# Altium footprint library axsem_production_v1-8.PCBLIB: 22 footprints (part 1 of 2)
Each footprint in its own frame and in the unit in brackets; x right, y up, seen from the top. Pads: shape width x height; smd on the part's side, far side on the other; paste and mask are expansions set on the pad; w line width, h text height; cw(c..) or ccw(c..) is an arc to the next point about the centre after c.
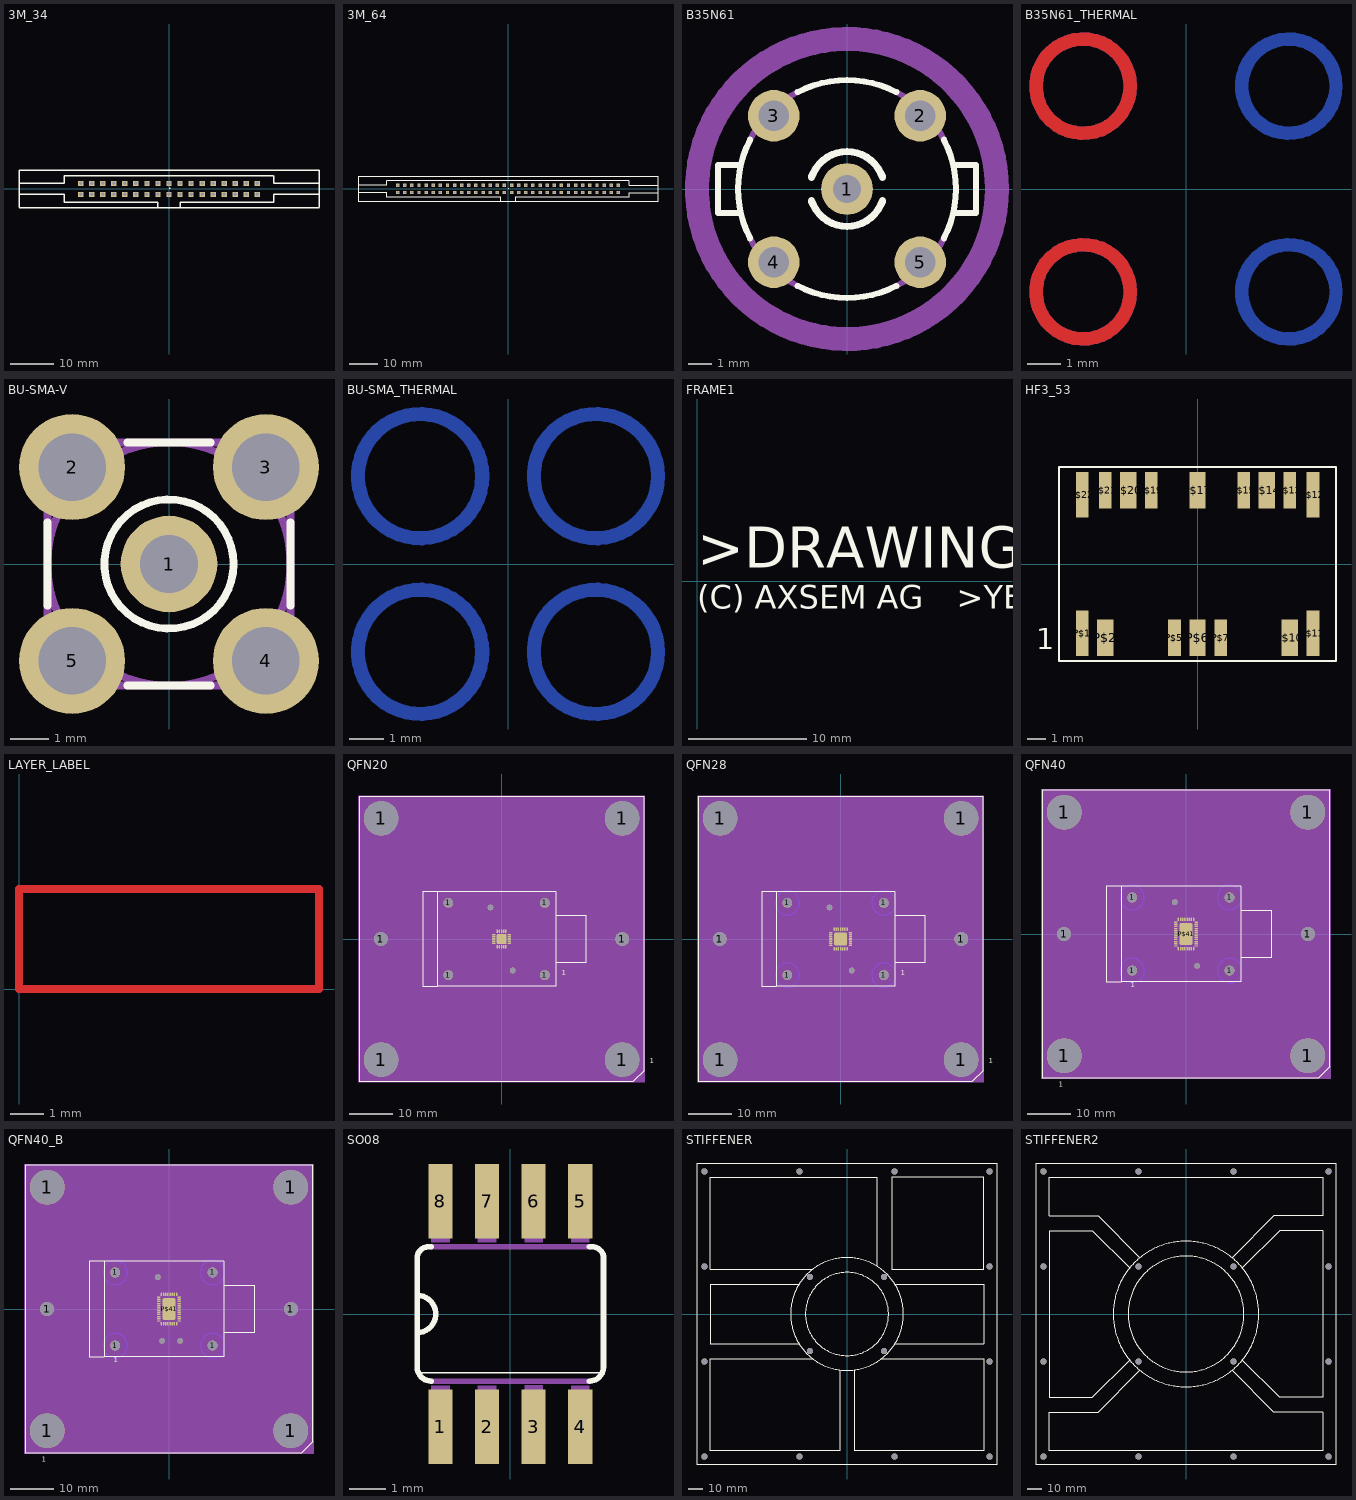
[diagram p0: the footprints below, top view; thin cyan lines are the x and y axes]

## 3M_34 [mil]
pads (34):
  rect 48x48 hole 32: 1(800,-50) 2(800,50) 3(700,-50) 4(700,50) 5(600,-50) 6(600,50) 7(500,-50) 8(500,50) 9(400,-50) 10(400,50) 11(300,-50) 12(300,50) 13(200,-50) 14(200,50) 15(100,-50) 16(100,50) 17(0,-50) 18(0,50) 19(-100,-50) 20(-100,50) 21(-200,-50) 22(-200,50) 23(-300,-50) 24(-300,50) 25(-400,-50) 26(-400,50) 27(-500,-50) 28(-500,50) 29(-600,-50) 30(-600,50) 31(-700,-50) 32(-700,50) 33(-800,-50) 34(-800,50)
Top Overlay:
  region: 0,0 10,0 10,10 0,10
  lines w12: -1358.27,-169.29 -100,-169.29 -100,-120 ; -1358.27,-167 -1358.27,-50 ; -100,-170 100,-170 ; -100,-118.11 -950,-118.11 -950,-50 -1358.27,-50 ; 100,-120 100,-169.29 1358.27,-169.29 ; 100,-118.11 950,-118.11 950,-50 1358.27,-50 ; 945,118.11 -950,118.11 -950,50 -1358.27,50 ; 950,118.11 950,50 1358.27,50 ; 1358.27,-167 1358.27,-50 ; -1358.27,-50 -1358.27,50 ; -1358.27,50 -1358.27,169.29 1358.27,169.29 1358.27,50 ; 1358.27,-50 1358.27,50

## 3M_64 [mil]
pads (64):
  rect 48x48 hole 32: 1(1550,-50) 2(1550,50) 3(1450,-50) 4(1450,50) 5(1350,-50) 6(1350,50) 7(1250,-50) 8(1250,50) 9(1150,-50) 10(1150,50) 11(1050,-50) 12(1050,50) 13(950,-50) 14(950,50) 15(850,-50) 16(850,50) 17(750,-50) 18(750,50) 19(650,-50) 20(650,50) 21(550,-50) 22(550,50) 23(450,-50) 24(450,50) 25(350,-50) 26(350,50) 27(250,-50) 28(250,50) 29(150,-50) 30(150,50) 31(50,-50) 32(50,50) 33(-50,-50) 34(-50,50) 35(-150,-50) 36(-150,50) 37(-250,-50) 38(-250,50) 39(-350,-50) 40(-350,50) 41(-450,-50) 42(-450,50) 43(-550,-50) 44(-550,50) 45(-650,-50) 46(-650,50) 47(-750,-50) 48(-750,50) 49(-850,-50) 50(-850,50) 51(-950,-50) 52(-950,50) 53(-1050,-50) 54(-1050,50) 55(-1150,-50) 56(-1150,50) 57(-1250,-50) 58(-1250,50) 59(-1350,-50) 60(-1350,50) 61(-1450,-50) 62(-1450,50) 63(-1550,-50) 64(-1550,50)
Top Overlay:
  region: 0,0 10,0 10,10 0,10
  lines w12: -2106.3,-169.29 -100,-169.29 -100,-120 ; -2106.3,-167 -2106.3,-50 ; -100,-170 100,-170 ; -100,-118.11 -1700,-118.11 -1700,-50 -2106.3,-50 ; 100,-120 100,-169.29 2106.3,-169.29 ; 100,-118.11 1700,-118.11 1700,-50 2106.3,-50 ; 1695,118.11 -1700,118.11 -1700,50 -2106.3,50 ; 1700,118.11 1700,50 2106.3,50 ; 2106.3,-167 2106.3,-50 ; -2106.3,-50 -2106.3,50 ; -2106.3,50 -2106.3,169.29 2106.3,169.29 2106.3,50 ; 2106.3,-50 2106.3,50

## B35N61 [mil]
pads (5):
  round 86 hole 47.24: 1(0,0)
  round 86 hole 51.18: 2(122,122) 3(-122,122) 4(-122,-122) 5(122,-122)
Top Overlay:
  lines w10: -180,-40 -215,-40 -215,40 -180,40 ; -161.42,-82.68 cw(c0,0) -161.42,82.68 ; -82.68,-161.42 ccw(c0,0) 82.68,-161.42 ; -82.68,161.42 cw(c0,0) 82.68,161.42 ; 161.42,-82.68 ccw(c0,0) 161.42,82.68 ; 180,-40 215,-40 215,40 180,40
  lines w12: -59.06,-19.69 ccw(c0,0) 59.06,-19.69 ; -59.06,19.69 cw(c0,0) 59.06,19.69
Mechanical 16:
  lines w10: -161.42,-82.68 ccw(c0,0) -82.68,-161.42 ; -161.42,82.68 cw(c0,0) -82.68,161.42 ; 82.68,-161.42 ccw(c0,0) 161.42,-82.68 ; 82.68,161.42 cw(c0,0) 161.42,82.68
  text "B35 N61" at -50,-100 h37.2
Mechanical 27:
  circle w40: c0,0 r250

## B35N61_THERMAL [mil]
Top Layer:
  circle w16: c-122,122 r55.9
  circle w16: c-122,-122 r55.9
Mid-Layer 5:
  circle w16: c122,122 r55.9
  circle w16: c122,-122 r55.9
Mid-Layer 10:
  circle w16: c-122,122 r55.9
  circle w16: c122,122 r55.9
  circle w16: c122,-122 r55.9
  circle w16: c-122,-122 r55.9
Bottom Layer:
  circle w16: c-122,122 r55.9
  circle w16: c122,122 r55.9
  circle w16: c122,-122 r55.9
  circle w16: c-122,-122 r55.9

## BU-SMA-V [mil]
pads (5):
  round 100 hole 60: 1(0,0)
  round 110 hole 70: 2(-100.39,100.39) 3(100.39,100.39) 4(100.39,-100.39) 5(-100.39,-100.39)
Top Overlay:
  circle w8: c0,0 r66.93
  lines w8: -125.98,-43.31 -125.98,43.31 ; -43.31,-125.98 43.31,-125.98 ; -43.31,125.98 43.31,125.98 ; 125.98,-43.31 125.98,43.31
Mechanical 16:
  circle w8: c0,0 r125.98
  lines w8: -125.98,-125.98 125.98,-125.98 125.98,125.98 -125.98,125.98 -125.98,-125.98

## BU-SMA_THERMAL [mil]
Mid-Layer 5:
  circle w16: c100,-100 r70.71
  circle w16: c100,100 r70.71
Mid-Layer 10:
  circle w16: c100,100 r70.71
  circle w16: c100,-100 r70.71
  circle w16: c-100,-100 r70.71
  circle w16: c-100,100 r70.71
Bottom Layer:
  circle w16: c-100,100 r70.71
  circle w16: c100,100 r70.71
  circle w16: c100,-100 r70.71
  circle w16: c-100,-100 r70.71

## FRAME1 [mil]
Top Overlay:
  text ">DRAWING_NAME" at 0,0 h232.5
  text "(C) AXSEM AG" at 0,-118.11 h133.3
  text ">YEAR" at 866.14,-118.11 h133.3

## HF3_53 [mil]
pads (16):
  rect 27.56x98.43 smd: P$1(-250,-150) P$11(250,-150) P$12(250,150) P$22(-250,150)
  rect 35.43x78.74 smd: P$2(-200,-160) P$6(0,-160) P$10(200,-160) P$14(150,160) P$17(0,160) P$20(-150,160)
  rect 27.56x78.74 smd: P$5(-50,-160) P$7(50,-160) P$13(200,160) P$15(100,160) P$19(-100,160) P$21(-200,160)
Top Overlay:
  lines w5: -300,-210 -300,210 300,210 300,-210 -300,-210
  text "1" at -350,-200 h77.5

## LAYER_LABEL [mil]
Top Layer:
  lines w10: 0,0 354.33,0 354.33,118.11 0,118.11 0,0
  text "TOP" at 590.55,98.43 h59.5
  text "1" at 334.65,98.43 h59.5
Mid-Layer 5:
  lines w10: 0,0 354.33,0 354.33,118.11 0,118.11 0,0
  text "2" at 248.03,98.43 h59.5
Mid-Layer 10:
  lines w10: 0,0 354.33,0 354.33,118.11 0,118.11 0,0
  text "3" at 165.35,98.43 h59.5
Bottom Layer:
  lines w10: 0,0 354.33,0 354.33,118.11 0,118.11 0,0
  text "BOTTOM" at 767.72,27.56 h59.5
  text "4" at 78.74,27.56 h59.5

## QFN20 [mil]
pads (33):
  round 125.98 hole 125.98: 1(-1101.5,0) 1(1101.5,0)
  round 314.96 hole 314.96: 1(-1100,-1100) 1(-1100,1100) 1(1100,-1100) 1(1100,1100)
  round 89 hole 89: 1(-486,-330) 1(-486,330) 1(394,-330) 1(394,330)
  round 51 hole 51: 1(-101,287.5) 1(101,-287.5)
  rrect100% 31.5x13.78 smd: P$1(70.87,-39.37) P$2(70.87,-19.69) P$3(70.87,0) P$4(70.87,19.69) P$5(70.87,39.37) P$11(-70.87,39.37) P$12(-70.87,19.69) P$13(-70.87,0) P$14(-70.87,-19.69) P$15(-70.87,-39.37)
  rrect100% 13.78x31.5 smd: P$6(39.37,70.87) P$7(19.69,70.87) P$8(0,70.87) P$9(-19.69,70.87) P$10(-39.37,70.87) P$16(-39.37,-70.87) P$17(-19.69,-70.87) P$18(0,-70.87) P$19(19.69,-70.87) P$20(39.37,-70.87)
  rrect25% 90.55x90.55 smd: P$21(0,0)
Top Overlay:
  lines w5: -586,-430 -586,430 ; -586,-430 494,-430 494,-215 ; -586,-430 -721,-430 -721,430 -586,430 ; -586,430 494,430 494,215 ; 494,-215 494,215 ; 494,-215 769,-215 769,215 494,215 ; -1300,-1300 1200,-1300 1300,-1200 1300,1300 -1300,1300 -1300,-1300
  text "1" at 1350,-1150 h77.5
  text "1" at 550,-350 h77.5
Top Solder:
  rectangle: -586,-430 494,430
Mechanical 27:
  rectangle: -1310,-1310 1310,1310
Mechanical 28:
  circle w5: c-486,330 r157.48
  circle w5: c-486,-330 r157.48
  circle w5: c394,330 r157.48
  circle w5: c394,-330 r157.48
  circle w5: c-486,330 r110.24
  circle w5: c-486,-330 r110.24
  circle w5: c394,330 r110.24
  circle w5: c394,-330 r110.24

## QFN28 [mil]
pads (41):
  round 125.98 hole 125.98: 1(-1102,0) 1(1102,0)
  round 314.96 hole 314.96: 1(-1100,-1100) 1(-1100,1100) 1(1100,-1100) 1(1100,1100)
  round 89 hole 89: 1(-486,-330) 1(-486,330) 1(394,-330) 1(394,330)
  round 51 hole 51: 1(-101,287.5) 1(101,-287.5)
  rrect25% 118.11x118.11 smd: P$0(0,0)
  rrect100% 31.5x13.78 smd: P$1(90.43,-59.06) P$2(90.43,-39.37) P$3(90.43,-19.69) P$4(90.43,0) P$5(90.43,19.69) P$6(90.43,39.37) P$7(90.43,59.06) P$15(-90.43,59.06) P$16(-90.43,39.37) P$17(-90.43,19.69) P$18(-90.43,0) P$19(-90.43,-19.69) P$20(-90.43,-39.37) P$21(-90.43,-59.06)
  rrect100% 13.78x31.5 smd: P$8(59.06,90.37) P$9(39.37,90.37) P$10(19.69,90.37) P$11(0,90.37) P$12(-19.69,90.37) P$13(-39.37,90.37) P$14(-59.06,90.37) P$22(-59.06,-90.43) P$23(-39.37,-90.43) P$24(-19.69,-90.43) P$25(0,-90.43) P$26(19.69,-90.43) P$27(39.37,-90.43) P$28(59.06,-90.43)
Bottom Layer keep-out:
  circle w5: c-486,330 r110.24
  circle w5: c-486,-330 r110.24
  circle w5: c394,330 r110.24
  circle w5: c394,-330 r110.24
Top Overlay:
  lines w5: -586,-430 -586,430 ; -586,-430 494,-430 494,-215 ; -586,-430 -721,-430 -721,430 -586,430 ; -586,430 494,430 494,215 ; 494,-215 494,215 ; 494,-215 769,-215 769,215 494,215 ; -1300,-1300 1200,-1300 1300,-1200 1300,1300 -1300,1300 -1300,-1300
  text "1" at 1350,-1150 h77.5
  text "1" at 550,-350 h77.5
Top Solder:
  rectangle: -586,-430 494,430
Mechanical 27:
  rectangle: -1310,-1310 1310,1310
Mechanical 28:
  circle w5: c-486,330 r157.48
  circle w5: c-486,-330 r157.48
  circle w5: c394,330 r157.48
  circle w5: c394,-330 r157.48

## QFN40 [mil]
pads (53):
  round 125.98 hole 125.98: 1(-1101.5,0) 1(1101.5,0)
  round 314.96 hole 314.96: 1(-1100,-1100) 1(-1100,1100) 1(1100,-1100) 1(1100,1100)
  round 89 hole 89: 1(-486,-330) 1(-486,330) 1(394,-330) 1(394,330)
  round 51 hole 51: 1(-101,287.5) 1(101,-287.5)
  rrect100% 13.39x31.5 smd: P$1(-68.9,-132) P$2(-49.21,-132) P$3(-29.53,-132) P$4(-9.84,-132) P$5(9.84,-132) P$6(29.53,-132) P$7(49.21,-132) P$8(68.9,-132) P$21(68.9,132) P$22(49.21,132) P$23(29.53,132) P$24(9.84,132) P$25(-9.84,132) P$26(-29.53,132) P$27(-49.21,132) P$28(-68.9,132)
  rrect100% 31.5x13.39 smd: P$9(92.5,-108.27) P$10(92.5,-88.58) P$11(92.5,-68.9) P$12(92.5,-49.21) P$13(92.5,-29.53) P$14(92.5,-9.84) P$15(92.5,9.84) P$16(92.5,29.53) P$17(92.5,49.21) P$18(92.5,68.9) P$19(92.5,88.58) P$20(92.5,108.27) P$29(-92.5,108.27) P$30(-92.5,88.58) P$31(-92.5,68.9) P$32(-92.5,49.21) P$33(-92.5,29.53) P$34(-92.5,9.84) P$35(-92.5,-9.84) P$36(-92.5,-29.53) P$37(-92.5,-49.21) P$38(-92.5,-68.9) P$39(-92.5,-88.58) P$40(-92.5,-108.27)
  rrect25% 118.11x196.85 smd: P$41(0,0)
Bottom Layer keep-out:
  circle w5: c-486,330 r110.24
  circle w5: c-486,-330 r110.24
  circle w5: c394,-330 r110.24
  circle w5: c394,330 r110.24
Top Overlay:
  lines w5: -586,-430 -586,430 ; -586,-430 494,-430 494,-215 ; -586,-430 -721,-430 -721,430 -586,430 ; -586,430 494,430 494,215 ; 494,-215 494,215 ; 494,-215 769,-215 769,215 494,215 ; -1300,-1300 1200,-1300 1300,-1200 1300,1300 -1300,1300 -1300,-1300
  text "1" at -1150,-1400 h77.5
  text "1" at -500,-500 h77.5
Top Solder:
  rectangle: -586,-430 494,430
Mechanical 27:
  rectangle: -1310,-1310 1310,1310
Mechanical 28:
  circle w5: c-486,330 r157.48
  circle w5: c-486,-330 r157.48
  circle w5: c394,330 r157.48
  circle w5: c394,-330 r157.48

## QFN40_B [mil]
pads (54):
  round 125.98 hole 125.98: 1(-1101.5,0) 1(1101.5,0)
  round 314.96 hole 314.96: 1(-1100,-1100) 1(-1100,1100) 1(1100,-1100) 1(1100,1100)
  round 89 hole 89: 1(-486,-330) 1(-486,330) 1(394,-330) 1(394,330)
  round 51 hole 51: 1(-101,287.5) 1(-62,-287.5) 1(101,-287.5)
  rrect100% 13.39x31.5 smd: P$1(-68.9,-132) P$2(-49.21,-132) P$3(-29.53,-132) P$4(-9.84,-132) P$5(9.84,-132) P$6(29.53,-132) P$7(49.21,-132) P$8(68.9,-132) P$21(68.9,132) P$22(49.21,132) P$23(29.53,132) P$24(9.84,132) P$25(-9.84,132) P$26(-29.53,132) P$27(-49.21,132) P$28(-68.9,132)
  rrect100% 31.5x13.39 smd: P$9(92.5,-108.27) P$10(92.5,-88.58) P$11(92.5,-68.9) P$12(92.5,-49.21) P$13(92.5,-29.53) P$14(92.5,-9.84) P$15(92.5,9.84) P$16(92.5,29.53) P$17(92.5,49.21) P$18(92.5,68.9) P$19(92.5,88.58) P$20(92.5,108.27) P$29(-92.5,108.27) P$30(-92.5,88.58) P$31(-92.5,68.9) P$32(-92.5,49.21) P$33(-92.5,29.53) P$34(-92.5,9.84) P$35(-92.5,-9.84) P$36(-92.5,-29.53) P$37(-92.5,-49.21) P$38(-92.5,-68.9) P$39(-92.5,-88.58) P$40(-92.5,-108.27)
  rrect25% 118.11x196.85 smd: P$41(0,0)
Bottom Layer keep-out:
  circle w5: c-486,330 r110.24
  circle w5: c-486,-330 r110.24
  circle w5: c394,-330 r110.24
  circle w5: c394,330 r110.24
Top Overlay:
  lines w5: -586,-430 -586,430 ; -586,-430 494,-430 494,-215 ; -586,-430 -721,-430 -721,430 -586,430 ; -586,430 494,430 494,215 ; 494,-215 494,215 ; 494,-215 769,-215 769,215 494,215 ; -1300,-1300 1200,-1300 1300,-1200 1300,1300 -1300,1300 -1300,-1300
  text "1" at -1150,-1400 h77.5
  text "1" at -500,-500 h77.5
Top Solder:
  rectangle: -586,-430 494,430
Mechanical 27:
  rectangle: -1310,-1310 1310,1310
Mechanical 28:
  circle w5: c-486,330 r157.48
  circle w5: c-486,-330 r157.48
  circle w5: c394,330 r157.48
  circle w5: c394,-330 r157.48

## SO08 [mil]
pads (8):
  rect 26x80 smd: 1(-75,-121) 2(-25,-121) 3(25,-121) 4(75,-121) 5(75,121) 6(25,121) 7(-25,121) 8(-75,121)
Top Overlay:
  lines w2: -100,-63 100,-63
  lines w6: -85,-72 cw(c-85,-57) -100,-57 -100,-20 ; -85,72 ccw(c-87.5,59.5) -100,62 -100,20 ; 85,-72 ccw(c85,-57) 100,-57 100,62 ccw(c87.5,59.5) 85,72 ; -100,-20 -100,20 ; -100,-20 ccw(c-100,0) -100,20
Mechanical 16:
  rectangle: 65,77 85,122
  rectangle: -85,-122 -65,-77
  rectangle: -35,-122 -15,-77
  rectangle: 15,-121 35,-76
  rectangle: 65,-122 85,-77
  rectangle: 15,77 35,122
  rectangle: -35,77 -15,122
  rectangle: -85,77 -65,122
  lines w6: -85,-72 85,-72 ; -85,72 85,72

## STIFFENER [mil]
pads (16):
  round 165.35 hole 165.35: 1(-3779.53,-3779.53) 1(-3779.53,-1259.84) 1(-3779.53,1259.84) 1(-3779.53,3779.53) 1(-1259.84,-3779.53) 1(-1259.84,3779.53) 1(-984.25,-984.25) 1(-984.25,984.25) 1(984.25,-984.25) 1(984.25,984.25) 1(1259.84,-3779.53) 1(1259.84,3779.53) 1(3779.53,-3779.53) 1(3779.53,-1259.84) 1(3779.53,1259.84) 1(3779.53,3779.53)
Top Overlay:
  circle w5: c0,0 r1102.36
  circle w5: c0,0 r1496.06
  lines w5: -1279.53,-787.4 -3622.05,-787.4 -3622.05,787.4 -1279.53,787.4 ; -925.2,-1181.1 -3622.05,-1181.1 -3622.05,-3622.05 -196.85,-3622.05 -196.85,-1496.06 ; -925.2,1181.1 -3622.05,1181.1 -3622.05,3622.05 787.4,3622.05 787.4,1279.53 ; 196.85,-1496.06 196.85,-3622.05 3622.05,-3622.05 3622.05,-1181.1 925.2,-1181.1 ; 1279.53,-787.4 3622.05,-787.4 3622.05,787.4 1279.53,787.4 ; -3976.38,-3976.38 3976.38,-3976.38 3976.38,3976.38 -3976.38,3976.38 -3976.38,-3976.38 ; 1181.1,1181.1 1181.1,3622.05 3622.05,3622.05 3622.05,1181.1 1181.1,1181.1
Mechanical 27:
  region: 0,0 10,0 10,10 0,10
  region: 0,0 10,0 10,10 0,10
  region: 0,0 10,0 10,10 0,10
  region: 0,0 10,0 10,10 0,10
  region: 0,0 10,0 10,10 0,10
  region: 0,0 10,0 10,10 0,10
  region: 0,0 10,0 10,10 0,10
  region: 0,0 10,0 10,10 0,10
  region: 0,0 10,0 10,10 0,10
  region: 0,0 10,0 10,10 0,10
  region: 0,0 10,0 10,10 0,10
  region: 0,0 10,0 10,10 0,10
  region: 0,0 10,0 10,10 0,10
  region: 0,0 10,0 10,10 0,10
  region: 0,0 10,0 10,10 0,10
  region: 0,0 10,0 10,10 0,10
Mechanical 28:
  region: 0,0 10,0 10,10 0,10
  region: 0,0 10,0 10,10 0,10
  region: 0,0 10,0 10,10 0,10
  region: 0,0 10,0 10,10 0,10
  region: 0,0 10,0 10,10 0,10
  region: 0,0 10,0 10,10 0,10
  region: 0,0 10,0 10,10 0,10
  region: 0,0 10,0 10,10 0,10
  region: 0,0 10,0 10,10 0,10
  region: 0,0 10,0 10,10 0,10
  region: 0,0 10,0 10,10 0,10
  region: 0,0 10,0 10,10 0,10
  region: 0,0 10,0 10,10 0,10
  region: 0,0 10,0 10,10 0,10
  region: 0,0 10,0 10,10 0,10
  region: 0,0 10,0 10,10 0,10

## STIFFENER2 [mil]
pads (16):
  round 165.35 hole 165.35: 1(-3779.53,-3779.53) 1(-3779.53,-1259.84) 1(-3779.53,1259.84) 1(-3779.53,3779.53) 1(-1259.84,-3779.53) 1(-1259.84,-1259.84) 1(-1259.84,1259.84) 1(-1259.84,3779.53) 1(1259.84,-3779.53) 1(1259.84,-1259.84) 1(1259.84,1259.84) 1(1259.84,3779.53) 1(3779.53,-3779.53) 1(3779.53,-1259.84) 1(3779.53,1259.84) 1(3779.53,3779.53)
Top Overlay:
  circle w5: c0,0 r1535.43
  circle w5: c0,0 r1929.13
  lines w5: -1496.06,-1220.47 -2480.32,-2204.72 -3622.05,-2204.72 -3622.05,2204.72 -2480.32,2204.72 -1496.06,1220.47 ; -1220.47,-1496.06 -2322.83,-2598.43 -3622.05,-2598.43 -3622.05,-3622.05 3622.05,-3622.05 3622.05,-2598.43 2322.83,-2598.43 1220.47,-1496.06 ; -1220.47,1496.06 -2322.83,2598.43 -3622.05,2598.43 -3622.05,3622.05 3622.05,3622.05 3622.05,2598.43 2322.83,2598.43 1220.47,1496.06 ; 1496.06,-1220.47 2480.32,-2204.72 3622.05,-2204.72 3622.05,2204.72 2480.32,2204.72 1496.06,1220.47 ; -3976.38,-3976.38 3976.38,-3976.38 3976.38,3976.38 -3976.38,3976.38 -3976.38,-3976.38
Mechanical 27:
  region: 0,0 10,0 10,10 0,10
  region: 0,0 10,0 10,10 0,10
  region: 0,0 10,0 10,10 0,10
  region: 0,0 10,0 10,10 0,10
  region: 0,0 10,0 10,10 0,10
  region: 0,0 10,0 10,10 0,10
  region: 0,0 10,0 10,10 0,10
  region: 0,0 10,0 10,10 0,10
  region: 0,0 10,0 10,10 0,10
  region: 0,0 10,0 10,10 0,10
  region: 0,0 10,0 10,10 0,10
  region: 0,0 10,0 10,10 0,10
  region: 0,0 10,0 10,10 0,10
  region: 0,0 10,0 10,10 0,10
  region: 0,0 10,0 10,10 0,10
  region: 0,0 10,0 10,10 0,10
Mechanical 28:
  region: 0,0 10,0 10,10 0,10
  region: 0,0 10,0 10,10 0,10
  region: 0,0 10,0 10,10 0,10
  region: 0,0 10,0 10,10 0,10
  region: 0,0 10,0 10,10 0,10
  region: 0,0 10,0 10,10 0,10
  region: 0,0 10,0 10,10 0,10
  region: 0,0 10,0 10,10 0,10
  region: 0,0 10,0 10,10 0,10
  region: 0,0 10,0 10,10 0,10
  region: 0,0 10,0 10,10 0,10
  region: 0,0 10,0 10,10 0,10
  region: 0,0 10,0 10,10 0,10
  region: 0,0 10,0 10,10 0,10
  region: 0,0 10,0 10,10 0,10
  region: 0,0 10,0 10,10 0,10